# Altium footprint library 数控直流电源.PcbLib: 4 footprints
Each footprint in its own frame and in the unit in brackets; x right, y up, seen from the top. Pads: shape width x height; smd on the part's side, far side on the other; paste and mask are expansions set on the pad; w line width, h text height; cw(c..) or ccw(c..) is an arc to the next point about the centre after c.
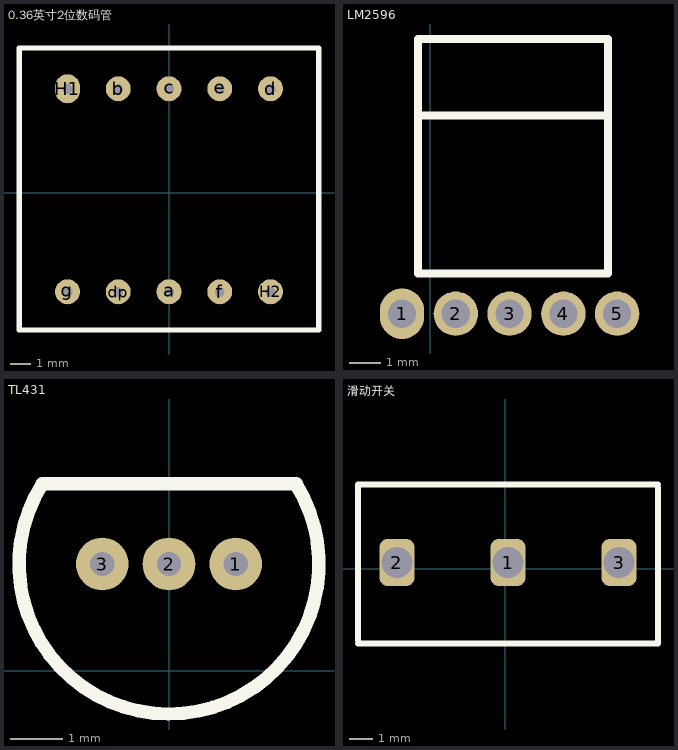
[diagram p0: the footprints below, top view; thin cyan lines are the x and y axes]

## 0.36英寸2位数码管 [mm]
pads (10):
  round 1.25 hole 0.5: a(0,-4.953) b(-2.54,5.207) c(0,5.207) d(5.08,5.207) dp(-2.54,-4.953) e(2.54,5.207) f(2.54,-4.953) g(-5.08,-4.953) H2(5.08,-4.953)
  oval 1.25x1.45 hole 0.5: H1(-5.08,5.207)
Top Overlay:
  lines w0.254: -7.507,7.239 7.493,7.239 7.493,-6.761 ; -7.493,7.142 -7.493,-6.858 7.507,-6.858

## LM2596 [mm]
pads (5):
  oval 1.4x1.6 hole 0.89: 1(-0.889,-14.224)
  round 1.4 hole 0.89: 2(0.811,-14.224) 3(2.511,-14.224) 4(4.211,-14.224) 5(5.911,-14.224)
Top Overlay:
  lines w0.254: -0.381,-7.954 5.619,-7.954 ; -0.381,-12.954 5.619,-12.954 5.619,-5.541 -0.381,-5.541 -0.381,-12.954

## TL431 [mm] "TL431"
pads (3):
  round 1 hole 0.46: 1(1.27,2.032) 2(0,2.032) 3(-1.27,2.032)
Top Overlay:
  lines w0.254: -2.413,3.556 ccw(c0,2.032) 2.427,3.534 ; -2.387,3.556 2.427,3.556

## 滑动开关 [mm] "SS12D10"
pads (3):
  rrect50% 1.5x2 hole 1.3 square: 1(0.127,0.254) 2(-4.573,0.254) 3(4.827,0.254)
Top Overlay:
  lines w0.254: -6.223,-3.171 6.477,-3.171 6.477,3.429 ; -6.223,-3.048 -6.223,3.552 6.477,3.552